# Altium footprint library CAP-SMD_L6.0-W3.2-R-RD.PcbLib: 1 footprints
Each footprint in its own frame and in the unit in brackets; x right, y up, seen from the top. Pads: shape width x height; smd on the part's side, far side on the other; paste and mask are expansions set on the pad; w line width, h text height; cw(c..) or ccw(c..) is an arc to the next point about the centre after c.
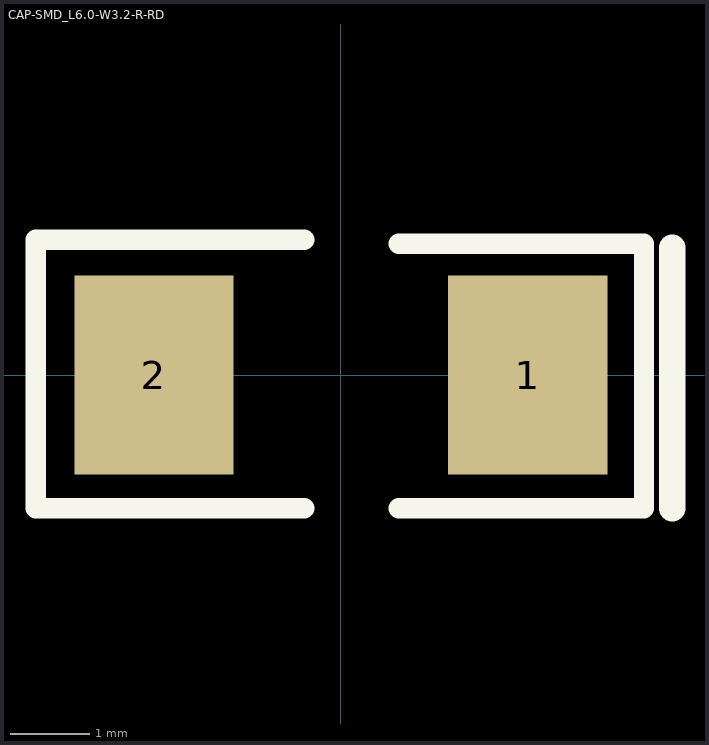
[diagram p0: the footprint, top view; thin cyan lines are the x and y axes]

## CAP-SMD_L6.0-W3.2-R-RD [mm]
pads (2):
  rect 2x2.5 smd: 1(2.35,0) 2(-2.35,0)
Top Overlay:
  lines w0.254: -0.457,-1.676 -3.835,-1.676 -3.835,1.702 -0.457,1.702 ; 0.724,-1.676 3.81,-1.676 3.81,1.651 0.724,1.651
  lines w0.33: 4.166,-1.676 4.166,1.6